# Altium footprint library SmartHome V3.PcbLib: 49 footprints (part 1 of 4)
Each footprint in its own frame and in the unit in brackets; x right, y up, seen from the top. Pads: shape width x height; smd on the part's side, far side on the other; paste and mask are expansions set on the pad; w line width, h text height; cw(c..) or ccw(c..) is an arc to the next point about the centre after c.
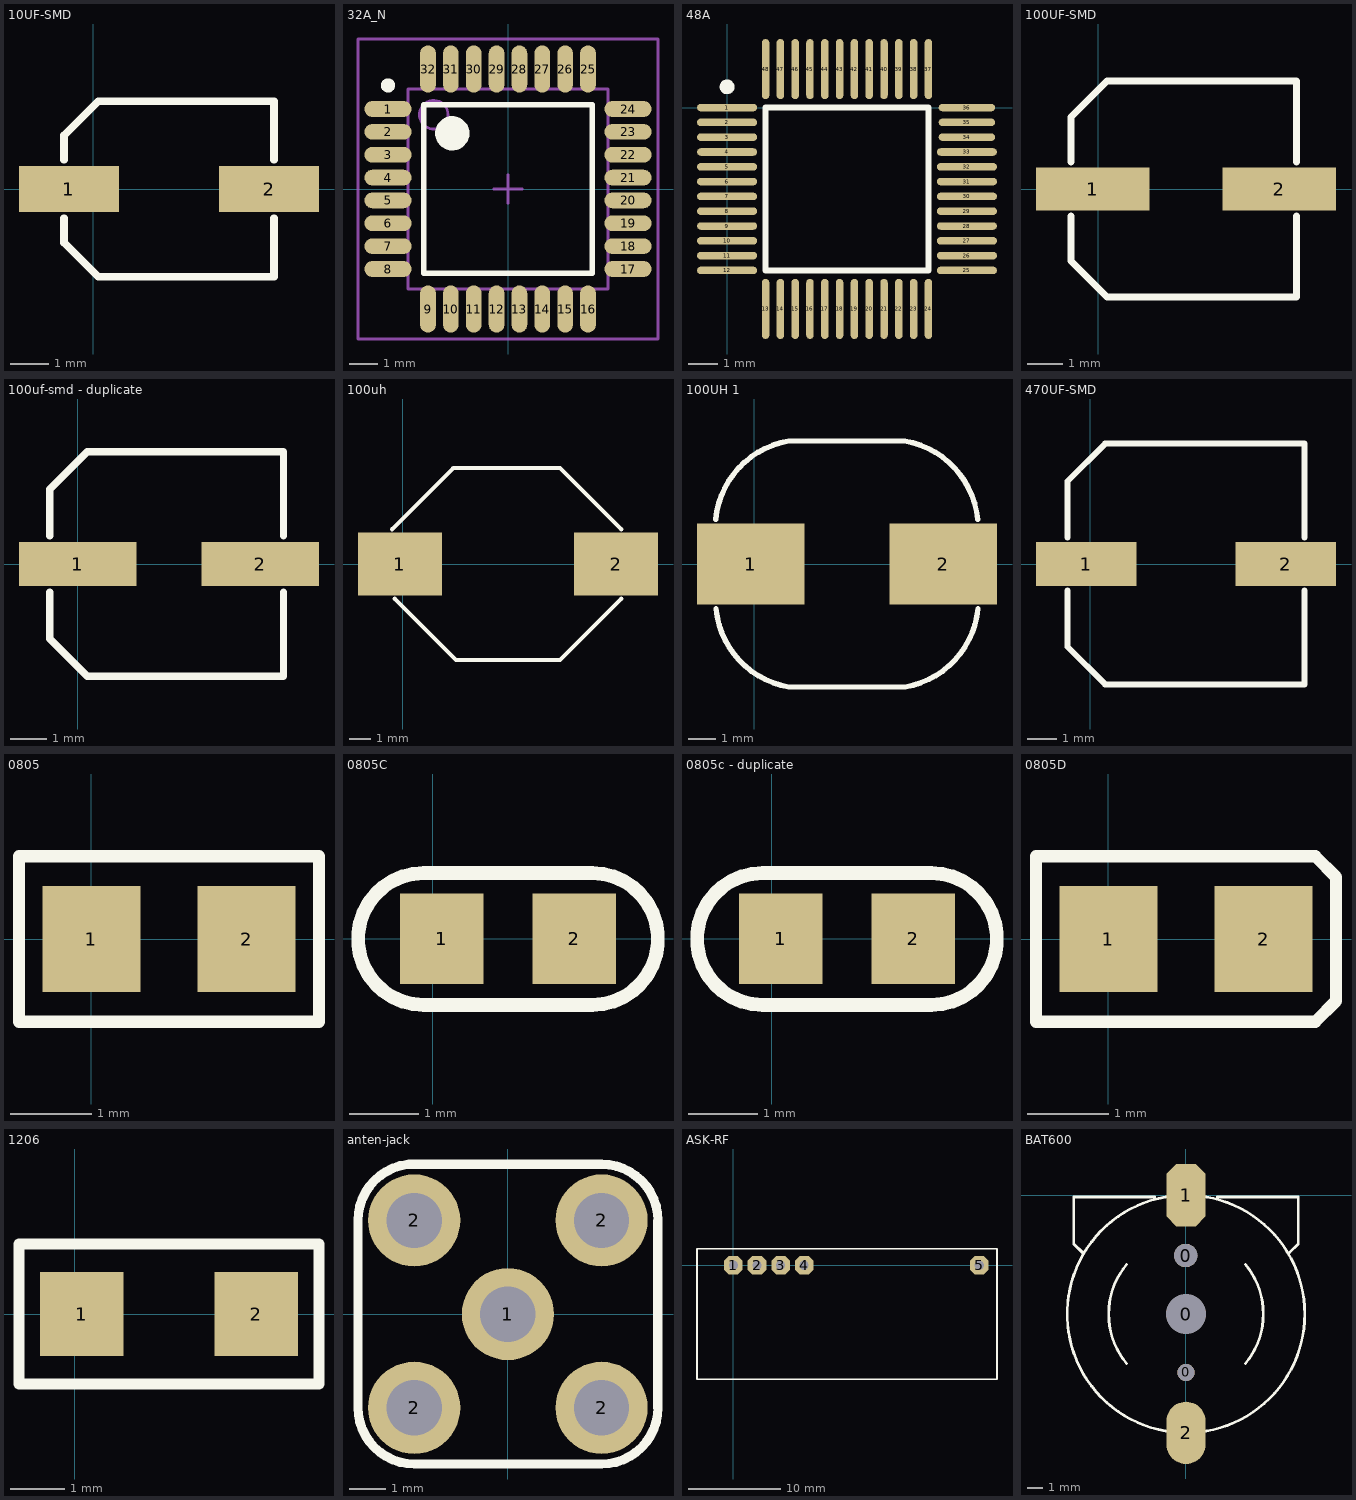
[diagram p0: the footprints below, top view; thin cyan lines are the x and y axes]

## 10UF-SMD [mm]
pads (2):
  rect 2.6x1.2 smd: 1(-0.635,0) 2(4.572,0)
Top Overlay:
  lines w0.2: -0.762,-0.762 -0.762,-1.397 0.127,-2.286 4.699,-2.286 4.699,-0.762 ; -0.762,0.762 -0.762,1.397 0.127,2.286 4.699,2.286 4.699,0.762

## 32A_N [mm] "Thin QFP, 32-Leads, Body 7x7mm, Pitch 0.8mm, IPC Medium Density"
height 1.2
pads (32):
  oval 1.65x0.55 smd: 1(-4.2,2.8) 2(-4.2,2) 3(-4.2,1.2) 4(-4.2,0.4) 5(-4.2,-0.4) 6(-4.2,-1.2) 7(-4.2,-2) 8(-4.2,-2.8) 17(4.2,-2.8) 18(4.2,-2) 19(4.2,-1.2) 20(4.2,-0.4) 21(4.2,0.4) 22(4.2,1.2) 23(4.2,2) 24(4.2,2.8)
  oval 0.55x1.65 smd: 9(-2.8,-4.2) 10(-2,-4.2) 11(-1.2,-4.2) 12(-0.4,-4.2) 13(0.4,-4.2) 14(1.2,-4.2) 15(2,-4.2) 16(2.8,-4.2) 25(2.8,4.2) 26(2,4.2) 27(1.2,4.2) 28(0.4,4.2) 29(-0.4,4.2) 30(-1.2,4.2) 31(-2,4.2) 32(-2.8,4.2)
Top Overlay:
  circle w0.6: c-1.95,1.95 r0.3
  circle w0.25: c-4.2,3.625 r0.125
  lines w0.2: -2.95,-2.95 2.95,-2.95 2.95,2.95 -2.95,2.95 -2.95,-2.95
Mechanical 13:
  circle w0.1: c-2.6,2.6 r0.5
  lines w0.1: -3.5,-3.5 3.5,-3.5 3.5,3.5 -3.5,3.5 -3.5,-3.5
Mechanical 15:
  lines w0.1: -0.5,0 0.5,0 ; 0,-0.5 0,0.5 ; -5.25,-5.25 5.25,-5.25 5.25,5.25 -5.25,5.25 -5.25,-5.25
3D body: height 1.2, standoff 0, extent -3.5,-3.5 3.5,3.5

## 48A [mil]
pads (48):
  oval 80x10 smd: 1(0,0) 2(0,-19.69) 3(0,-39.37) 4(0,-59.06) 5(0,-78.74) 6(0,-98.43) 7(0,-118.11) 8(0,-137.8) 9(0,-157.48) 10(0,-177.17) 11(0,-196.85) 12(0,-216.54) 25(318.9,-216.54) 26(318.9,-196.85) 27(318.9,-177.17) 28(318.9,-157.48) 29(318.9,-137.8) 30(318.9,-118.11) 31(318.9,-98.43) 32(318.9,-78.74) 33(318.9,-59.06)
  oval 10x80 smd: 13(51.18,-267.72) 14(70.87,-267.72) 15(90.55,-267.72) 16(110.24,-267.72) 17(129.92,-267.72) 18(149.61,-267.72) 19(169.29,-267.72) 20(188.98,-267.72) 21(208.66,-267.72) 22(228.35,-267.72) 23(248.03,-267.72) 24(267.72,-267.72) 37(267.72,51.18) 38(248.03,51.18) 39(228.35,51.18) 40(208.66,51.18) 41(188.98,51.18) 42(169.29,51.18) 43(149.61,51.18) 44(129.92,51.18) 45(110.24,51.18) 46(90.55,51.18) 47(70.87,51.18) 48(51.18,51.18)
  oval 75x10 smd: 34(318.9,-39.37) 35(318.9,-19.69) 36(318.9,0)
Top Overlay:
  circle w9.84: c0,27.56 r4.92
  lines w7.87: 51.18,-216.54 51.18,0 267.72,0 267.72,-216.54 51.18,-216.54

## 100UF-SMD [mm]
pads (2):
  rect 3.2x1.2 smd: 1(-0.152,0) 2(5.105,0)
Top Overlay:
  lines w0.2: -0.762,-0.762 -0.762,-2.032 0.254,-3.048 5.588,-3.048 5.588,-0.762 ; -0.762,0.762 -0.762,2.032 0.254,3.048 5.588,3.048 5.588,0.762

## 100uf-smd - duplicate [mm]
pads (2):
  rect 3.2x1.2 smd: 1(0,0) 2(4.953,0)
Top Overlay:
  lines w0.2: -0.762,-0.762 -0.762,-2.032 0.254,-3.048 5.588,-3.048 5.588,-0.762 ; -0.762,0.762 -0.762,2.032 0.254,3.048 5.588,3.048 5.588,0.762

## 100uh [mm]
pads (2):
  rect 4x3 smd: 1(-0.127,0) 2(10.16,0)
Top Overlay:
  lines w0.2: -0.508,1.651 2.413,4.572 7.493,4.572 10.414,1.651 ; -0.381,-1.651 2.54,-4.572 7.493,-4.572 10.414,-1.651

## 100UH 1 [mm]
pads (2):
  rect 4x3 smd: 1(-0.127,0) 2(7.01,0)
Top Overlay:
  lines w0.2: -1.434,1.662 cw(c1.822,1.347) 1.27,4.572 5.588,4.572 cw(c5.036,1.347) 8.292,1.662 ; -1.422,-1.651 ccw(c1.834,-1.336) 1.282,-4.561 5.6,-4.561 ccw(c5.048,-1.336) 8.304,-1.651

## 470UF-SMD [mm]
pads (2):
  rect 3.4x1.5 smd: 1(-0.127,0) 2(6.604,0)
Top Overlay:
  lines w0.2: -0.762,-0.889 -0.762,-2.794 0.508,-4.064 7.239,-4.064 7.239,-0.889 ; -0.762,0.889 -0.762,2.794 0.508,4.064 7.239,4.064 7.239,0.889

## 0805 [mm]
pads (2):
  rect 1.2x1.3 smd: 1(0,0) 2(1.905,0)
Top Overlay:
  lines w0.15: -0.889,-1.016 -0.889,1.016 2.794,1.016 2.794,-1.016 -0.889,-1.016

## 0805C [mm]
pads (2):
  rect 1.2x1.3 smd: 1(0.127,0) 2(2.032,0)
Top Overlay:
  lines w0.2: -0.127,-0.953 cw(c-0.127,-0.003) -0.127,0.947 2.286,0.947 cw(c2.286,-0.003) 2.286,-0.953 -0.127,-0.953

## 0805c - duplicate [mm]
pads (2):
  rect 1.2x1.3 smd: 1(0.127,0) 2(2.032,0)
Top Overlay:
  lines w0.2: -0.127,-0.953 cw(c-0.127,-0.003) -0.127,0.947 2.286,0.947 cw(c2.286,-0.003) 2.286,-0.953 -0.127,-0.953

## 0805D [mm] "SM LED; 2 C-Bend Leads; Body 3.5 x 2.8 x 1.9 mm, inc leads (LxWxH typ)"
height 1.9
pads (2):
  rect 1.2x1.3 smd: 1(0,0) 2(1.905,0)
Top Overlay:
  lines w0.15: -0.889,-1.016 -0.889,1.016 2.54,1.016 2.794,0.762 2.794,-0.762 2.54,-1.016 -0.889,-1.016

## 1206 [mil]
pads (2):
  rect 60x60 smd: 1(5,0) 2(130,0)
Top Overlay:
  lines w7.87: -40,-50 175,-50 175,50 -40,50 -40,-50

## anten-jack [mm]
pads (5):
  round 2.5 hole 1.5: 1(0,0) 2(-2.54,-2.54) 2(-2.54,2.54) 2(2.54,-2.54) 2(2.54,2.54)
Top Overlay:
  lines w0.254: -2.688,4.064 2.54,4.064 cw(c2.54,2.534) 4.07,2.534 ; -2.54,-4.064 2.54,-4.064 ccw(c2.54,-2.534) 4.07,-2.534 ; -2.534,-4.064 cw(c-2.534,-2.534) -4.064,-2.534 -4.064,2.54 cw(c-2.534,2.54) -2.534,4.07 ; 4.064,-2.534 4.064,2.534

## ASK-RF [mm] "Connector; Header; 4 Position"
pads (5):
  oct 2x2 hole 1: 1(0,0) 2(2.54,0) 3(5.08,0) 4(7.62,0) 5(26.543,0)
Top Overlay:
  lines w0.2: -3.937,-12.319 28.448,-12.319 28.448,1.778 -3.937,1.778 -3.937,-12.319

## BAT600 [mm]
pads (5):
  round 1.5 hole 1.5: 0(-0.014,-3.866)
  round 1.1 hole 1.1: 0(0.011,-11.366)
  round 2.54 hole 2.54: 0(0.011,-7.616)
  oct 2.5x4 smd: 1(0.011,0.004)
  oval 2.5x4 smd: 2(0.011,-15.236)
Top Overlay:
  lines w0.178: -6.614,-3.691 -7.189,-3.116 -7.189,-0.116 -1.989,-0.116 ; -3.802,-10.788 cw(c0.011,-7.616) -3.799,-4.441 ; -0.823,-15.19 cw(c0.011,-7.616) -0.823,-0.042 ; 0.844,-15.19 ccw(c0.011,-7.616) 7.631,-7.616 ccw(c0.011,-7.616) 0.844,-0.042 ; 2.011,-0.116 7.211,-0.116 7.211,-3.116 6.611,-3.716 ; 3.823,-10.788 ccw(c0.011,-7.616) 3.825,-4.447